# EAGLE library part LTV846 (library optocoupler)
OPTO COUPLER Source: LITEON, LTV816.pdf
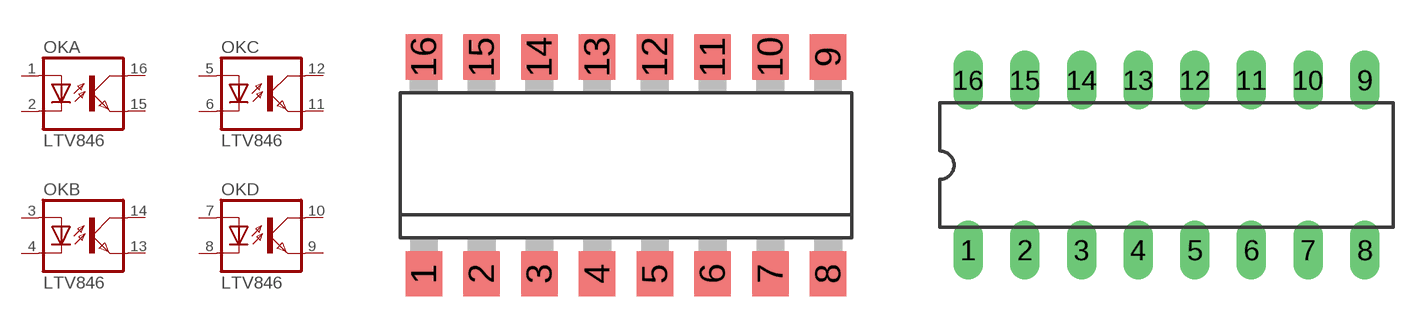
[diagram p1: symbol with the pads of DIL16-SMD; footprints DIL16-SMD, DIL16]

Designator prefix OK; gates A=OK B=OK C=OK D=OK

## LTV846  [DIL16-SMD]
1  A:A  pas
2  A:C  pas
3  B:A  pas
4  B:C  pas
5  C:A  pas
6  C:C  pas
7  D:A  pas
8  D:C  pas
9  D:EMIT  pas
10  D:COL  pas
11  C:EMIT  pas
12  C:COL  pas
13  B:EMIT  pas
14  B:COL  pas
15  A:EMIT  pas
16  A:COL  pas

## LTV846DIL  [DIL16]
Pads as for DIL16-SMD

## Footprint DIL16-SMD (pad centres in mm)
Dual In Line SMD 8 pol. Source: LITE-ON ELECTRONICS, LTV816.pdf
smd 1.6 x 2: 1 -3.81,-4.77; 2 -1.27,-4.77; 3 1.27,-4.77; 4 3.81,-4.77; 5 6.35,-4.77; 6 8.89,-4.77; 7 11.43,-4.77; 8 13.97,-4.77; 9 13.97,4.77; 10 11.43,4.77; 11 8.89,4.77; 12 6.35,4.77; 13 3.81,4.77; 14 1.27,4.77; 15 -1.27,4.77; 16 -3.81,4.77

## Footprint DIL16 (pad centres in mm)
Dual In Line
drill 0.813 long: 1 -8.89,-3.81; 2 -6.35,-3.81; 3 -3.81,-3.81; 4 -1.27,-3.81; 5 1.27,-3.81; 6 3.81,-3.81; 7 6.35,-3.81; 8 8.89,-3.81; 9 8.89,3.81; 10 6.35,3.81; 11 3.81,3.81; 12 1.27,3.81; 13 -1.27,3.81; 14 -3.81,3.81; 15 -6.35,3.81; 16 -8.89,3.81